# Altium schematic symbol library ADC.SchLib: 1 symbol
Pins are listed as number, name and electrical type; pins without a type are passive.

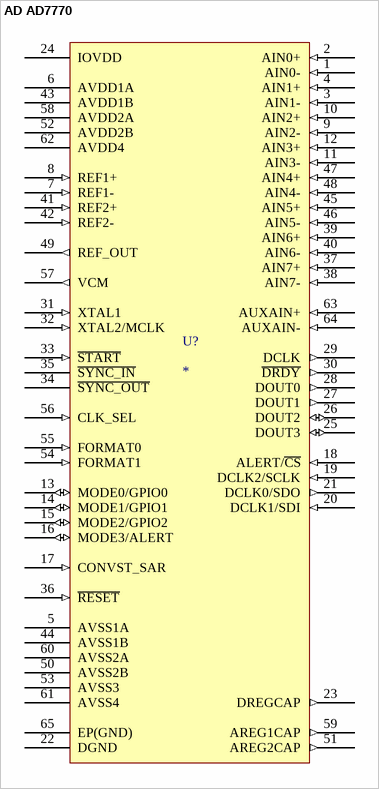
[diagram p0: symbol AD AD7770]

## AD AD7770
designator U?
pins: 1 AIN0- (in), 2 AIN0+ (in), 3 AIN1- (in), 4 AIN1+ (in), 5 AVSS1A (power), 6 AVDD1A (power), 7 REF1- (in), 8 REF1+ (in), 9 AIN2- (in), 10 AIN2+ (in), 11 AIN3- (in), 12 AIN3+ (in), 13 MODE0/GPIO0 (io), 14 MODE1/GPIO1 (io), 15 MODE2/GPIO2 (io), 16 MODE3/ALERT (io), 17 CONVST_SAR (in), 18 ALERT/~{CS} (in), 19 DCLK2/SCLK (in), 20 DCLK1/SDI (in), 21 DCLK0/SDO (out), 22 DGND (power), 23 DREGCAP (out), 24 IOVDD (power), 25 DOUT3 (io), 26 DOUT2 (io), 27 DOUT1 (out), 28 DOUT0 (out), 29 DCLK (out), 30 ~{DRDY} (out), 31 XTAL1 (in), 32 XTAL2/MCLK (in), 33 ~{START} (in), 34 ~{SYNC_OUT}, 35 ~{SYNC_IN}, 36 ~{RESET} (in), 37 AIN7+ (in), 38 AIN7- (in), 39 AIN6+ (in), 40 AIN6- (in), 41 REF2+ (in), 42 REF2- (in), 43 AVDD1B (power), 44 AVSS1B (power), 45 AIN5+ (in), 46 AIN5- (in), 47 AIN4+ (in), 48 AIN4- (in), 49 REF_OUT (out), 50 AVSS2B (power), 51 AREG2CAP (out), 52 AVDD2B (power), 53 AVSS3 (power), 54 FORMAT1 (in), 55 FORMAT0 (in), 56 CLK_SEL (in), 57 VCM (out), 58 AVDD2A (power), 59 AREG1CAP (out), 60 AVSS2A (power), 61 AVSS4 (power), 62 AVDD4 (power), 63 AUXAIN+ (in), 64 AUXAIN- (in), 65 EP(GND) (power)